# Altium schematic symbol library pneumatic-fitting.SchLib: 1 symbol
Pins are listed as number, name and electrical type; pins without a type are passive.

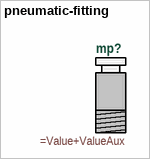
[diagram p0: symbol pneumatic-fitting]

## pneumatic-fitting
designator mp?  (mechanical)
=Description